# EAGLE library part ATF22V10C-15PU (library rcbussbc)
Microchip ATF22V10C-15PU, SPLD Simple Programmable Logic Device Source: Datasheet <http://ww1.microchip.com/downloads/en/DeviceDoc/doc0735.pdf>
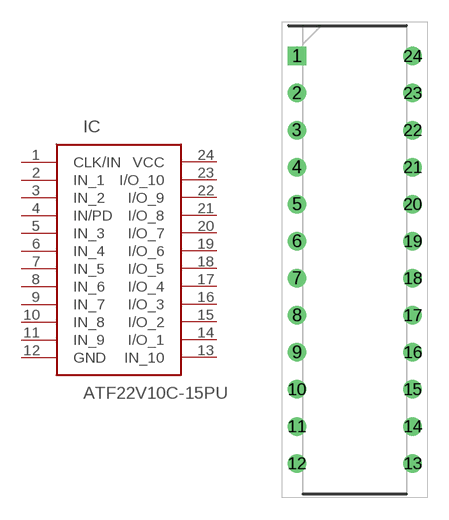
[diagram p9: symbol with the pads of DIP794W56P254L3188H533Q24N; footprint DIP794W56P254L3188H533Q24N]

Designator prefix IC

## ATF22V10C-15PU (ARROW_PART_NUMBER: ATF22V10C-15PU; ARROW_PRICE-STOCK: https://www.arrow.com/en/products/atf22v10c-15pu/microchip-technology?region=nac; DESCRIPTION: Microchip ATF22V10C-15PU, SPLD Simple Programmable Logic Device; HEIGHT: 5.334mm; MANUFACTURER_NAME: Microchip; MANUFACTURER_PART_NUMBER: ATF22V10C-15PU; MOUSER_PART_NUMBER: 556-AF22V10C15PU; MOUSER_PRICE-STOCK: https://www.mouser.co.uk/ProductDetail/Microchip-Technology-Atmel/ATF22V10C-15PU?qs=2mdvTlUeTfCr46ZvfjTtAg%3D%3D)  [DIP794W56P254L3188H533Q24N]
1  CLK/IN
2  IN_1
3  IN_2
4  IN/PD
5  IN_3
6  IN_4
7  IN_5
8  IN_6
9  IN_7
10  IN_8
11  IN_9
12  GND
13  IN_10
14  I/O_1
15  I/O_2
16  I/O_3
17  I/O_4
18  I/O_5
19  I/O_6
20  I/O_7
21  I/O_8
22  I/O_9
23  I/O_10
24  VCC

## ATF22V10C-15PUSOCKET  [DIP794W56P254L3188H533Q24N]
Pads as for DIP794W56P254L3188H533Q24N

## Footprint DIP794W56P254L3188H533Q24N (pad centres in mm)
ATF22V10C-15PU-1
drill 0.759 pad 1.159 square: 1 -3.969,13.97
drill 0.759 pad 1.159: 2 -3.969,11.43; 3 -3.969,8.89; 4 -3.969,6.35; 5 -3.969,3.81; 6 -3.969,1.27; 7 -3.969,-1.27; 8 -3.969,-3.81; 9 -3.969,-6.35; 10 -3.969,-8.89; 11 -3.969,-11.43; 12 -3.969,-13.97; 13 3.969,-13.97; 14 3.969,-11.43; 15 3.969,-8.89; 16 3.969,-6.35; 17 3.969,-3.81; 18 3.969,-1.27; 19 3.969,1.27; 20 3.969,3.81; 21 3.969,6.35; 22 3.969,8.89; 23 3.969,11.43; 24 3.969,13.97